# Altium footprint library PcbLib.PcbLib: 39 footprints (part 3 of 3)
Each footprint in its own frame and in the unit in brackets; x right, y up, seen from the top. Pads: shape width x height; smd on the part's side, far side on the other; paste and mask are expansions set on the pad; w line width, h text height; cw(c..) or ccw(c..) is an arc to the next point about the centre after c.
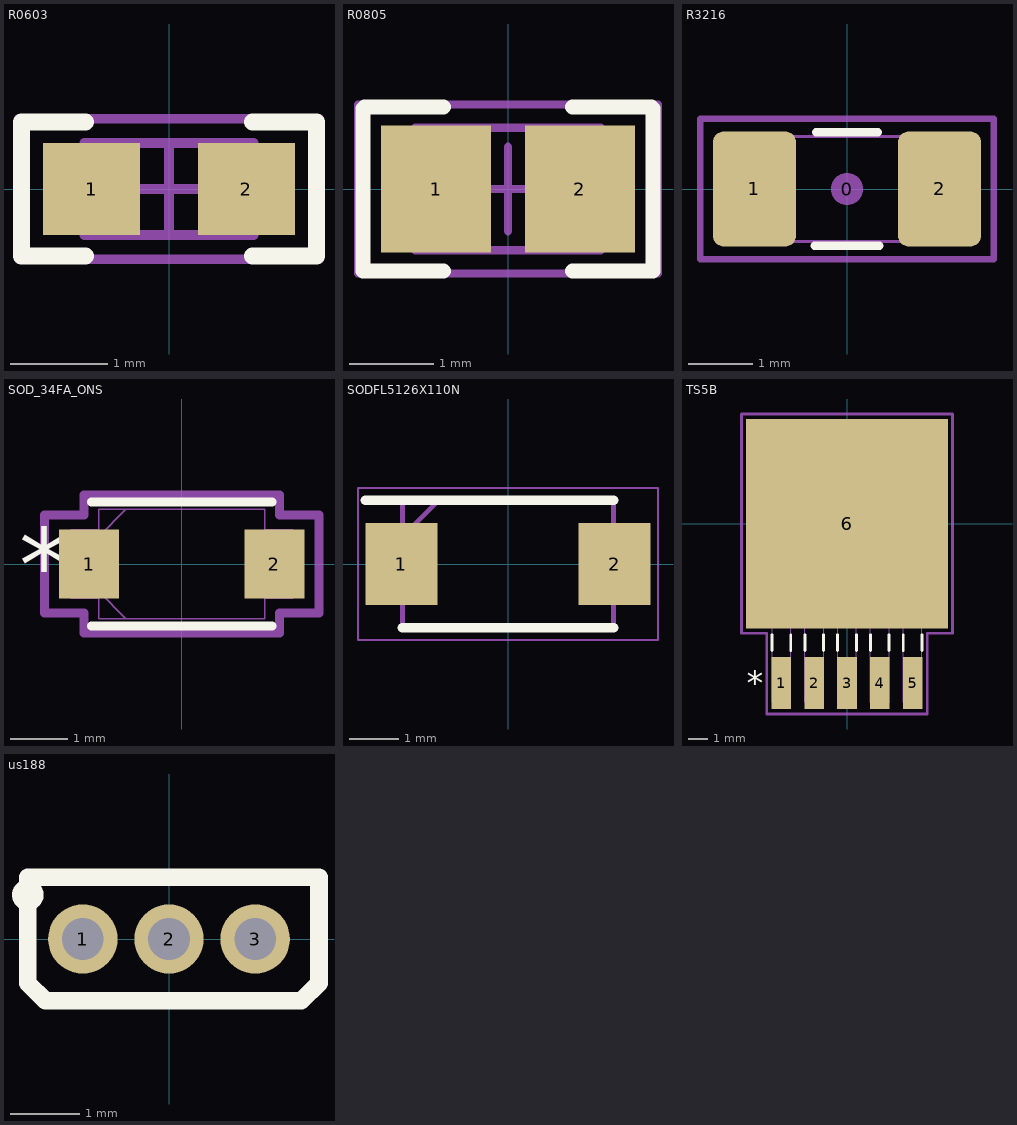
[diagram p2: the footprints below, top view; thin cyan lines are the x and y axes]

## R0603 [mm] "0603 from SM-752 data"
height 0.85
pads (2):
  rect 1x0.95 smd: 1(-0.8,0) 2(0.8,0)
Top Overlay:
  lines w0.178: -0.864,-0.691 -1.524,-0.691 -1.524,0.693 -0.864,0.693 ; 0.864,-0.691 1.524,-0.691 1.524,0.693 0.864,0.693
Mechanical 5:
  lines w0.1: -1.55,-0.725 1.55,-0.725 1.55,0.725 -1.55,0.725 -1.55,-0.725
  text ".Designator" at -1.397,-0.381 h0.76
Mechanical 13:
  lines w0.1: -0.55,-0.475 -0.55,0.475 ; 0.55,-0.475 0.55,0.475 ; -0.875,-0.475 -0.875,0.475 0.875,0.475 0.875,-0.475 -0.875,-0.475
Mechanical 15:
  lines w0.1: -0.475,0 0.475,0 ; 0,-0.475 0,0.475 ; -1.55,-0.725 -1.55,0.725 1.55,0.725 1.55,-0.725 -1.55,-0.725
3D body "RES 0603 (1608 metric).STEP": height 0.54, standoff -0.01, extent -0.875,-0.475 0.875,0.475

## R0805 [mm] "0805 from SM-752 data"
height 1.1
pads (2):
  rect 1.3x1.5 smd: 1(-0.85,0) 2(0.85,0)
Top Overlay:
  lines w0.178: -0.762,-0.968 -1.717,-0.968 -1.717,0.95 -1.699,0.968 -0.762,0.968 ; 0.762,-0.968 1.717,-0.968 1.717,0.95 1.699,0.968 0.762,0.968
Mechanical 5:
  lines w0.1: -1.775,-1 1.775,-1 1.775,1 -1.775,1 -1.775,-1
  text ".Designator" at -1.525,-0.425 h0.81
Mechanical 13:
  lines w0.1: -0.65,-0.725 -0.65,0.725 ; 0.65,-0.725 0.65,0.725 ; -1.1,-0.725 1.1,-0.725 1.1,0.725 -1.1,0.725 -1.1,-0.725
Mechanical 15:
  lines w0.1: -0.5,0 0.5,0 ; 0,-0.5 0,0.5 ; -1.775,-1 1.775,-1 1.775,1 -1.775,1 -1.775,-1
3D body "RES 0805 (2012 metric).STEP": height 0.69, standoff -0.01, extent -1.1,-0.675 1.1,0.675

## R3216 [mm] "Chip Resistor, Body 3.2x1.6mm, EIA 1206, IPC Medium Density"
height 0.7
pads (3):
  round 0.508 on Mech15: 0(0,0)
  rrect25% 1.3x1.8 smd: 1(-1.45,0) 2(1.45,0)
Top Overlay:
  lines w0.127: -0.508,-0.889 0.508,-0.889 ; -0.483,0.889 0.483,0.889
Mechanical 13:
  lines w0.05: 1.025,-0.824 -1.025,-0.824 1.025,-0.824 ; -1.625,-0.825 -1.025,-0.825 -1.025,0.825 -1.625,0.825 -1.625,-0.825 ; -1.025,0.824 1.025,0.824 -1.025,0.824 ; 1.025,-0.825 1.025,0.825 1.625,0.825 1.625,-0.825 1.025,-0.825
Mechanical 15:
  lines w0.1: -2.3,-1.1 -2.3,1.1 2.3,1.1 2.3,-1.1 -2.3,-1.1
3D body "RES 1206 (3216 metric).STEP": height 0.69, standoff -0.01, extent -1.625,-0.825 1.625,0.825

## SOD_34FA_ONS [mil]
pads (2):
  rect 41x47 smd paste+0 mask+0: 1(-63.5,0) 2(63.5,0)
Top Overlay:
  lines w6: -62,-42.5 62,-42.5 ; -62,42.5 62,42.5
  text "*" at -111.5,-25 h50
Mechanical 13:
  lines w1: -57,-18.75 -38.25,-37.5 ; -57,18.75 -38.25,37.5 ; -76,-23.5 -76,23.5 -57,23.5 -57,-23.5 -76,-23.5 ; -57,-37.5 57,-37.5 57,37.5 -57,37.5 -57,-37.5 ; 57,-23.5 57,23.5 76,23.5 76,-23.5 57,-23.5
  text "*" at -59.5,-25 h50
Mechanical 15:
  lines w6: -94,-33.5 -94,33.5 -67,33.5 -67,47.5 67,47.5 67,33.5 94,33.5 94,-33.5 67,-33.5 67,-47.5 -67,-47.5 -67,-33.5 -94,-33.5
3D body: height 10, standoff 0, extent 0,0 10,10
3D body "SOD_34FA_ONS.step": height 56.26, standoff 0, extent -75.99,-37.48 75.98,37.48

## SODFL5126X110N [mm]
pads (2):
  rect 1.47x1.67 smd: 1(-2.175,0) 2(2.175,0)
Top Overlay:
  lines w0.2: -2.91,1.3 2.15,1.3 ; -2.15,-1.3 2.15,-1.3
Mechanical 13:
  lines w0.1: -2.15,0.565 -1.415,1.3 ; -2.15,-1.3 -2.15,1.3 2.15,1.3 2.15,-1.3 -2.15,-1.3
Mechanical 15:
  lines w0.05: -3.06,-1.55 -3.06,1.55 3.06,1.55 3.06,-1.55 -3.06,-1.55
3D body "MBRAF360T3G.stp": height 1.1, standoff 0, extent -2.55,-1.3 2.55,1.3

## TS5B [mil]
pads (6):
  rect 40x106 smd: 1(-134,-326) 2(-67,-326) 3(0,-326) 4(67,-326) 5(134,-326)
  rect 412x428 smd: 6(0,0)
Top Overlay:
  lines w6: -153,-259 -153,-227.1 ; -115,-259 -115,-227.1 ; -86,-259 -86,-227.1 ; -48,-259 -48,-227.1 ; -19,-259 -19,-227.1 ; 19,-259 19,-227.1 ; 48,-259 48,-227.1 ; 86,-259 86,-227.1 ; 115,-259 115,-227.1 ; 153,-259 153,-227.1
  text "*" at -205,-351 h50
Mechanical 13:
  lines w1: -205,-200 205,-200 205,200 -205,200 -205,-200 ; -153,-365 -153,-200 -115,-200 -115,-365 -153,-365 ; -86,-365 -86,-200 -48,-200 -48,-365 -86,-365 ; -19,-365 -19,-200 19,-200 19,-365 -19,-365 ; 48,-365 48,-200 86,-200 86,-365 48,-365 ; 115,-365 115,-200 153,-200 153,-365 115,-365
  text "*" at -146.5,-215 h50
Mechanical 15:
  lines w6: -216,-224 -216,224 216,224 216,-224 164,-224 164,-389 -164,-389 -164,-224 -216,-224
3D body: height 10, standoff 0, extent 0,0 10,10
3D body "TS5B.step": height 189.09, standoff -2.01, extent -205,-293.82 205,183.82

## us188 [mm]
pads (3):
  round 1 hole 0.6: 1(-1.24,0) 2(0,0) 3(1.24,0)
Top Overlay:
  circle w0.2: c-2.032,0.635 r0.127
  lines w0.254: -2.032,-0.635 -1.778,-0.889 1.905,-0.889 2.159,-0.635 2.159,0.889 -2.032,0.889 -2.032,-0.635
3D body "Hall Effect Sensor Sunkee A3144 v4.step": height 11.6, standoff -7.1, extent -2.05,-0.889 2.05,0.611